# Altium integrated library TCCH-80.IntLib: 1 symbol
Pins are listed as number, name and electrical type; pins without a type are passive.

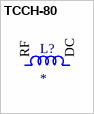
[diagram p0: symbol TCCH-80]

## TCCH-80
designator L?
4 ÂµH Unshielded Wirewound Inductor 200 mA 100mOhm Horizontal, 4 PC Pad -; MF: Mini-Circuits; MP: TCCH-80+; SnapEDA_Link: https://www.snapeda.com/parts/TCCH-80+/Mini-Circuits/view-part/?ref=snap; Package: None; Value: *; Check_prices: https://www.snapeda.com/parts/TCCH-80+/Mini-Circuits/view-part/?ref=eda
footprint GU1604
pins: P$1 RF, P$3 DC